# Altium footprint library Murata.PcbLib: 65 footprints (part 5 of 5)
Each footprint in its own frame and in the unit in brackets; x right, y up, seen from the top. Pads: shape width x height; smd on the part's side, far side on the other; paste and mask are expansions set on the pad; w line width, h text height; cw(c..) or ccw(c..) is an arc to the next point about the centre after c.
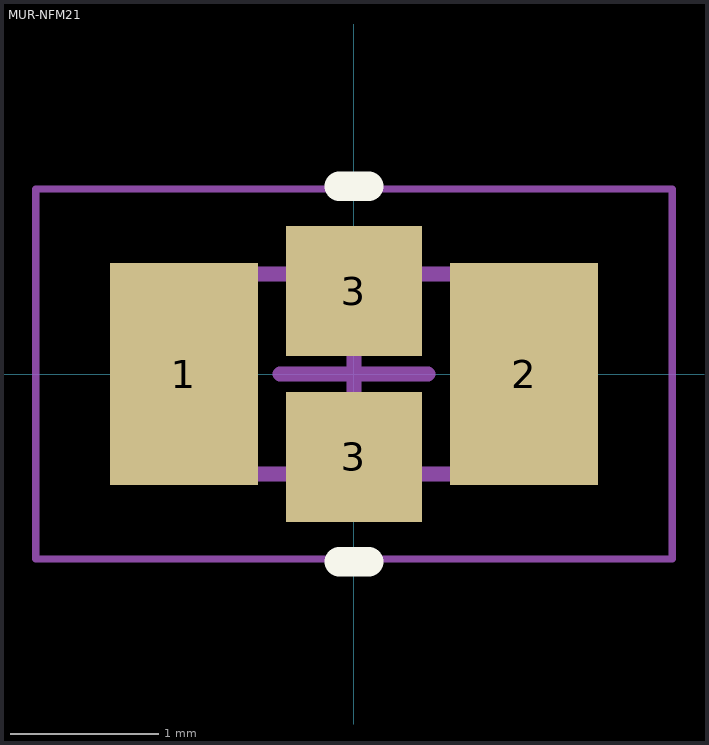
[diagram p4: the footprint, top view; thin cyan lines are the x and y axes]

## MUR-NFM21 [mm] "Chip Capacitor, 2-Leads, Body 2.00x1.25mm, IPC Low Density"
height 0.95
pads (4):
  rect 1x1.5 smd: 1(-1.15,0) 2(1.15,0)
  rect 0.92x0.88 smd: 3(0,-0.56) 3(0,0.56)
Top Overlay:
  lines w0.2: -0.1,-1.27 0.1,-1.27 ; -0.1,1.27 0.1,1.27
Assembly Top:
  lines w0.1: -1.1,-0.675 1.1,-0.675 1.1,0.675 -1.1,0.675 -1.1,-0.675
Courtyard Top:
  lines w0.05: -2.15,-1.25 2.15,-1.25 2.15,1.25 -2.15,1.25 -2.15,-1.25
  lines w0.1: -0.5,0 0.5,0 ; 0,-0.5 0,0.5
3D body "MUR-NFM21.step": height 0.95, standoff 0, extent -1.1,-0.675 1.1,0.675